# Altium footprint library TDFN-12-EP.PcbLib: 1 footprints
Each footprint in its own frame and in the unit in brackets; x right, y up, seen from the top. Pads: shape width x height; smd on the part's side, far side on the other; paste and mask are expansions set on the pad; w line width, h text height; cw(c..) or ccw(c..) is an arc to the next point about the centre after c.
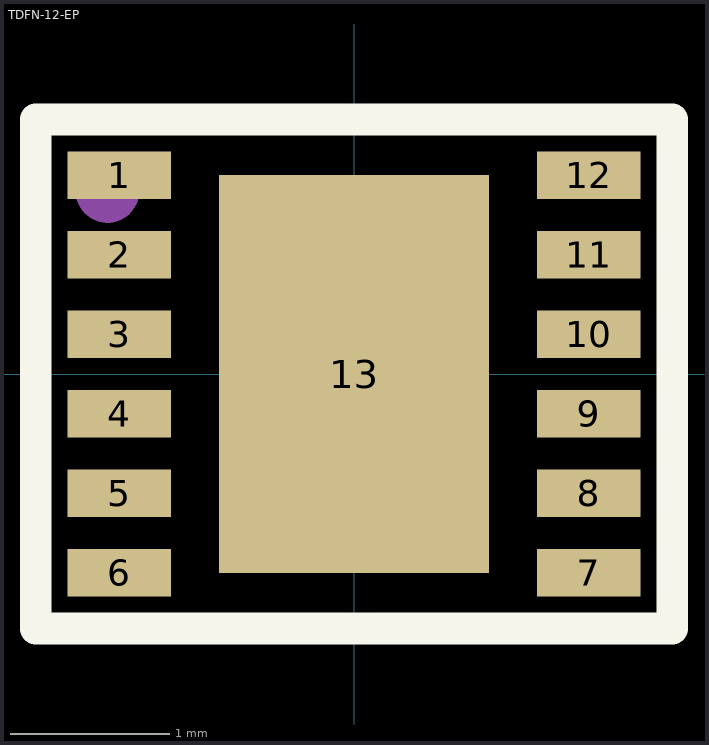
[diagram p0: the footprint, top view; thin cyan lines are the x and y axes]

## TDFN-12-EP [mm]
pads (13):
  rect 0.65x0.3 smd: 1(-1.475,1.25) 2(-1.475,0.75) 3(-1.475,0.25) 4(-1.475,-0.25) 5(-1.475,-0.75) 6(-1.475,-1.25) 7(1.475,-1.25) 8(1.475,-0.75) 9(1.475,-0.25) 10(1.475,0.25) 11(1.475,0.75) 12(1.475,1.25)
  rect 1.7x2.5 smd: 13(0,0)
Top Overlay:
  lines w0.2: -2,-1.6 -2,1.6 2,1.6 2,-1.6 -2,-1.6
Top Assembly:
  circle w0.2: c-1.55,1.15 r0.1
  lines w0.1: -2,-1.6 -2,1.6 2,1.6 2,-1.6 -2,-1.6
  text "'.Designator'" at -3.965,-0.292 h0.7
3D body "User Library-TDFN-12-EP-3x3-05.STEP": height 0.75, standoff 0, extent -1.5,-1.5 1.5,1.5